# Altium schematic symbol library qudong.SchLib: 27 symbols
Pins are listed as number, name and electrical type; pins without a type are passive.

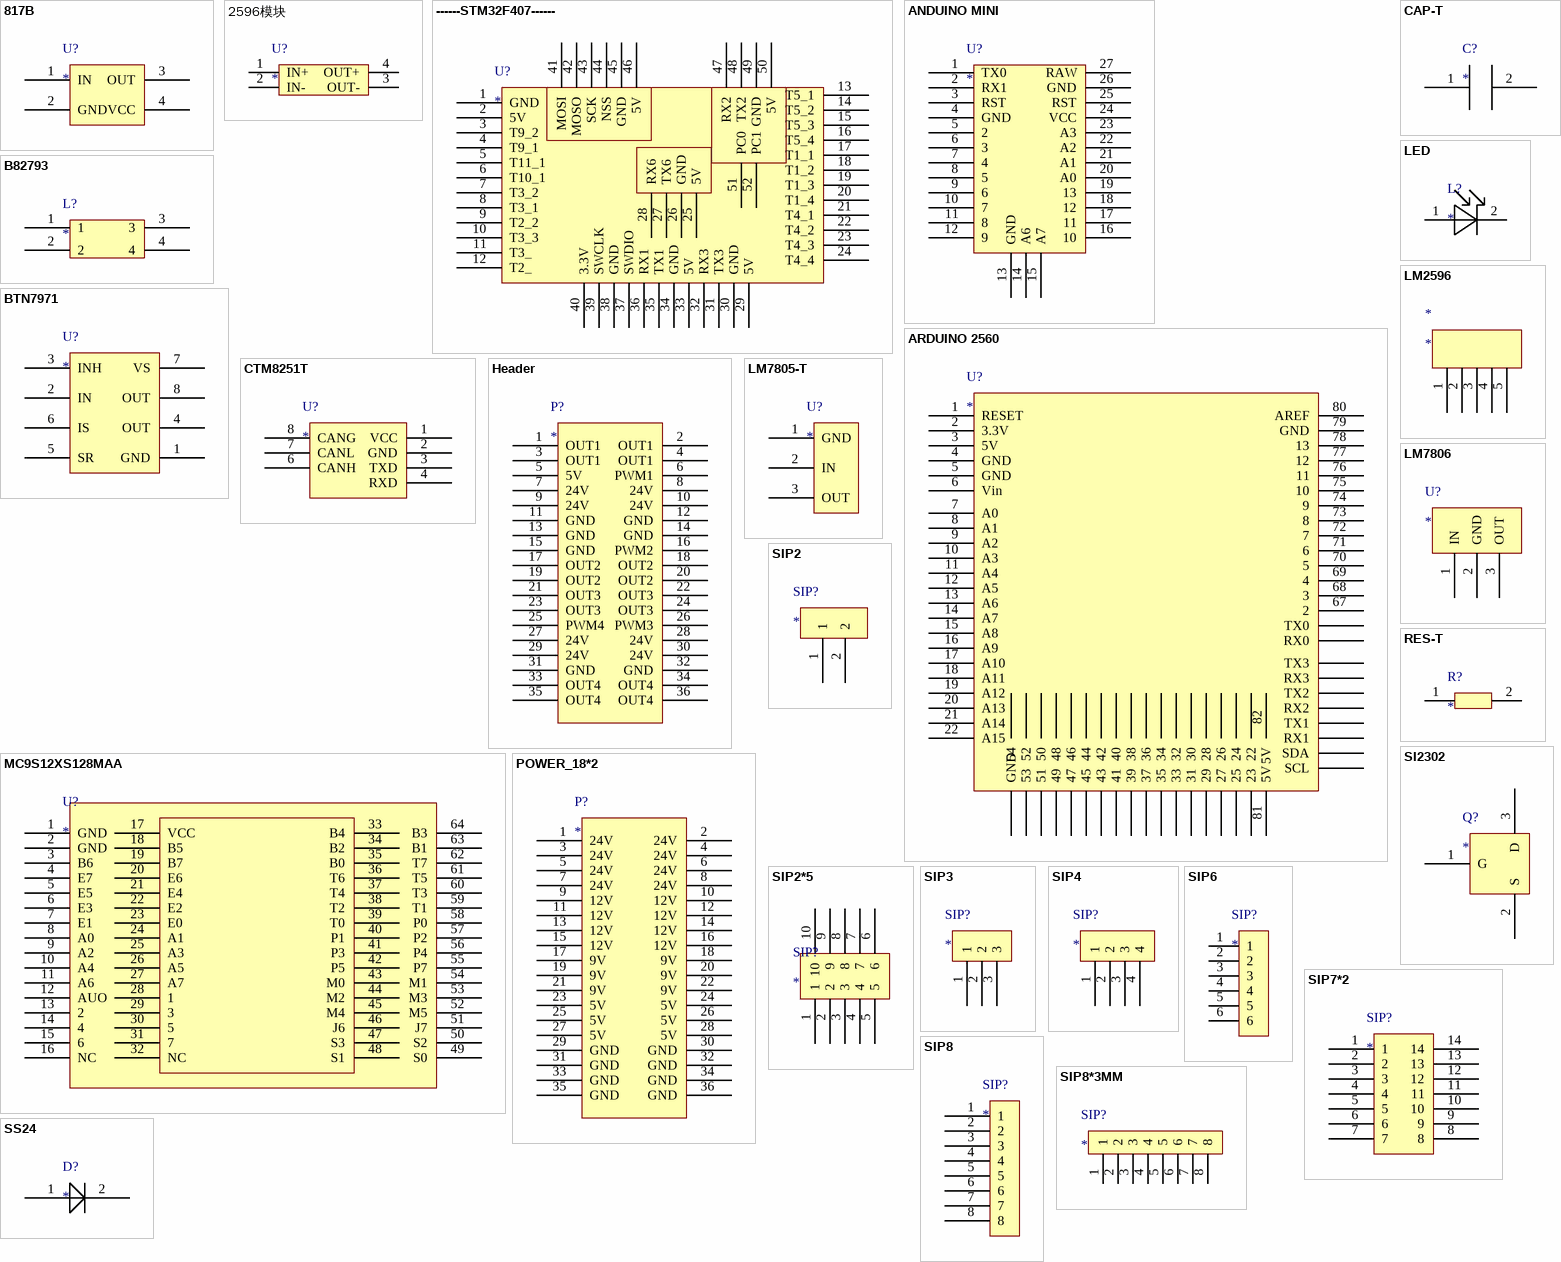
[diagram p0: symbols 817B to SS24]

## 817B
designator U?
footprint 817B
pins: 1 IN, 2 GND, 3 OUT, 4 VCC

## 2596模块
designator U?
footprint 2596模块
pins: 1 IN+, 2 IN-, 3 OUT-, 4 OUT+

## ------STM32F407------
designator U?
footprint -----STM32F407-----
pins: 1 GND, 2 5V, 3 T9_2, 4 T9_1, 5 T11_1, 6 T10_1, 7 T3_2, 8 T3_1, 9 T2_2, 10 T3_3, 11 T3_, 12 T2_, 13 T5_1, 14 T5_2, 15 T5_3, 16 T5_4, 17 T1_1, 18 T1_2, 19 T1_3, 20 T1_4, 21 T4_1, 22 T4_2, 23 T4_3, 24 T4_4, 25 5V, 26 GND, 27 TX6, 28 RX6, 29 5V, 30 GND, 31 TX3, 32 RX3, 33 5V, 34 GND, 35 TX1, 36 RX1, 37 SWDIO, 38 GND, 39 SWCLK, 40 3.3V, 41 MOSI, 42 MOSO, 43 SCK, 44 NSS, 45 GND, 46 5V, 47 RX2, 48 TX2, 49 GND, 50 5V, 51 PC0, 52 PC1

## ANDUINO MINI
designator U?
footprint ARDUINO MINI
footprint ARDUINO MINI
pins: 1 TX0, 2 RX1, 3 RST, 4 GND, 5 2, 6 3, 7 4, 8 5, 9 6, 10 7, 11 8, 12 9, 13 GND, 14 A6, 15 A7, 16 10, 17 11, 18 12, 19 13, 20 A0, 21 A1, 22 A2, 23 A3, 24 VCC, 25 RST, 26 GND, 27 RAW

## ARDUINO 2560
designator U?
footprint ARDUINO 2560
pins: 1 RESET, 2 3.3V, 3 5V, 4 GND, 5 GND, 6 Vin, 7 A0, 8 A1, 9 A2, 10 A3, 11 A4, 12 A5, 13 A6, 14 A7, 15 A8, 16 A9, 17 A10, 18 A11, 19 A12, 20 A13, 21 A14, 22 A15, 23 22, 24 23, 25 24, 26 25, 27 26, 28 27, 29 28, 30 29, 31 30, 32 31, 33 32, 34 33, 35 34, 36 35, 37 36, 38 37, 39 38, 40 39, 41 40, 42 41, 43 42, 44 43, 45 44, 46 45, 47 46, 48 47, 49 48, 50 49, 51 50, 52 51, 53 52, 54 53, 55 54, 56 GND, 57 SCL, 58 SDA, 59 RX1, 60 TX1, 61 RX2, 62 TX2, 63 RX3, 64 TX3, 65 RX0, 66 TX0, 67 2, 68 3, 69 4, 70 5, 71 6, 72 7, 73 8, 74 9, 75 10, 76 11, 77 12, 78 13, 79 GND, 80 AREF, 81 5V, 82 5V

## B82793
designator L?
footprint B82793
pins: 1, 2, 3, 4

## BTN7971
designator U?
footprint BTN7971 (TO, 8-Pads, Body 9.5x11.0mm (max), IPC Medium Density)
pins: 1 GND, 2 IN, 3 INH, 4 OUT, 5 SR, 6 IS, 7 VS, 8 OUT

## CAP-T
designator C?
footprint CAP-T
pins: 1, 2

## CTM8251T
designator U?
footprint CTM8251T
pins: 1 VCC, 2 GND, 3 TXD, 4 RXD, 6 CANH, 7 CANL, 8 CANG

## Header
designator P?
footprint QUDONGCHAZUO
footprint DIP36-3.96MM
pins: 1 OUT1, 2 OUT1, 3 OUT1, 4 OUT1, 5 5V, 6 PWM1, 7 24V, 8 24V, 9 24V, 10 24V, 11 GND, 12 GND, 13 GND, 14 GND, 15 GND, 16 PWM2, 17 OUT2, 18 OUT2, 19 OUT2, 20 OUT2, 21 OUT3, 22 OUT3, 23 OUT3, 24 OUT3, 25 PWM4, 26 PWM3, 27 24V, 28 24V, 29 24V, 30 24V, 31 GND, 32 GND, 33 OUT4, 34 OUT4, 35 OUT4, 36 OUT4

## LED
designator L?
footprint LED-T
pins: 1, 2

## LM2596
designator *
pins: 1, 2, 3, 4, 5

## LM7805-T
designator U?
footprint LM7805-T (TO, 3-Pads, Body 9.0x11.0mm (max), IPC Medium Density)
pins: 1 GND, 2 IN, 3 OUT

## LM7806
designator U?
footprint LM7806
pins: 1 IN, 2 GND, 3 OUT

## MC9S12XS128MAA
designator U?
footprint MC9ST2XS128MAA
pins: 1 GND, 2 GND, 3 B6, 4 E7, 5 E5, 6 E3, 7 E1, 8 A0, 9 A2, 10 A4, 11 A6, 12 AUO, 13 2, 14 4, 15 6, 16 NC, 17 VCC, 18 B5, 19 B7, 20 E6, 21 E4, 22 E2, 23 E0, 24 A1, 25 A3, 26 A5, 27 A7, 28 1, 29 3, 30 5, 31 7, 32 NC, 33 B4, 34 B2, 35 B0, 36 T6, 37 T4, 38 T2, 39 T0, 40 P1, 41 P3, 42 P5, 43 M0, 44 M2, 45 M4, 46 J6, 47 S3, 48 S1, 49 S0, 50 S2, 51 J7, 52 M5, 53 M3, 54 M1, 55 P7, 56 P4, 57 P2, 58 P0, 59 T1, 60 T3, 61 T5, 62 T7, 63 B1, 64 B3

## POWER_18*2
designator P?
footprint QUDONGCHAZUO
footprint DIP36-3.96MM
pins: 1 24V, 2 24V, 3 24V, 4 24V, 5 24V, 6 24V, 7 24V, 8 24V, 9 12V, 10 12V, 11 12V, 12 12V, 13 12V, 14 12V, 15 12V, 16 12V, 17 9V, 18 9V, 19 9V, 20 9V, 21 9V, 22 9V, 23 5V, 24 5V, 25 5V, 26 5V, 27 5V, 28 5V, 29 GND, 30 GND, 31 GND, 32 GND, 33 GND, 34 GND, 35 GND, 36 GND

## RES-T
designator R?
footprint RES-T
pins: 1, 2

## SI2302
designator Q?
footprint SI2302 (SOT23, 3-Leads, Body 3.0x2.6mm (max), Pitch 0.90mm, IPC Medium Density)
footprint SI2302 (SOT23, 3-Leads, Body 3.0x2.6mm (max), Pitch 0.90mm, IPC Medium Density)
pins: 1 G, 2 S, 3 D

## SIP2
designator SIP?
footprint SIP2-3MM
pins: 1, 2

## SIP2*5
designator SIP?
footprint SIP2*5
pins: 1, 2, 3, 4, 5, 6, 7, 8, 9, 10

## SIP3
designator SIP?
footprint SIP3
pins: 1, 2, 3

## SIP4
designator SIP?
footprint SIP4
pins: 1, 2, 3, 4

## SIP6
designator SIP?
footprint SIP6
pins: 1, 2, 3, 4, 5, 6

## SIP7*2
designator SIP?
footprint SIP7*2
pins: 1, 2, 3, 4, 5, 6, 7, 8, 9, 10, 11, 12, 13, 14

## SIP8
designator SIP?
footprint SIP8
pins: 1, 2, 3, 4, 5, 6, 7, 8

## SIP8*3MM
designator SIP?
footprint SIP8*3MM
pins: 1, 2, 3, 4, 5, 6, 7, 8

## SS24
designator D?
footprint SS24 (Molded Capacitor, 2-Leads, Body 4.5x3.0mm, IPC Medium Density)
pins: 1, 2